# Altium integrated library Xilinx Spartan-3.IntLib: 174 symbols (part 37 of 43)
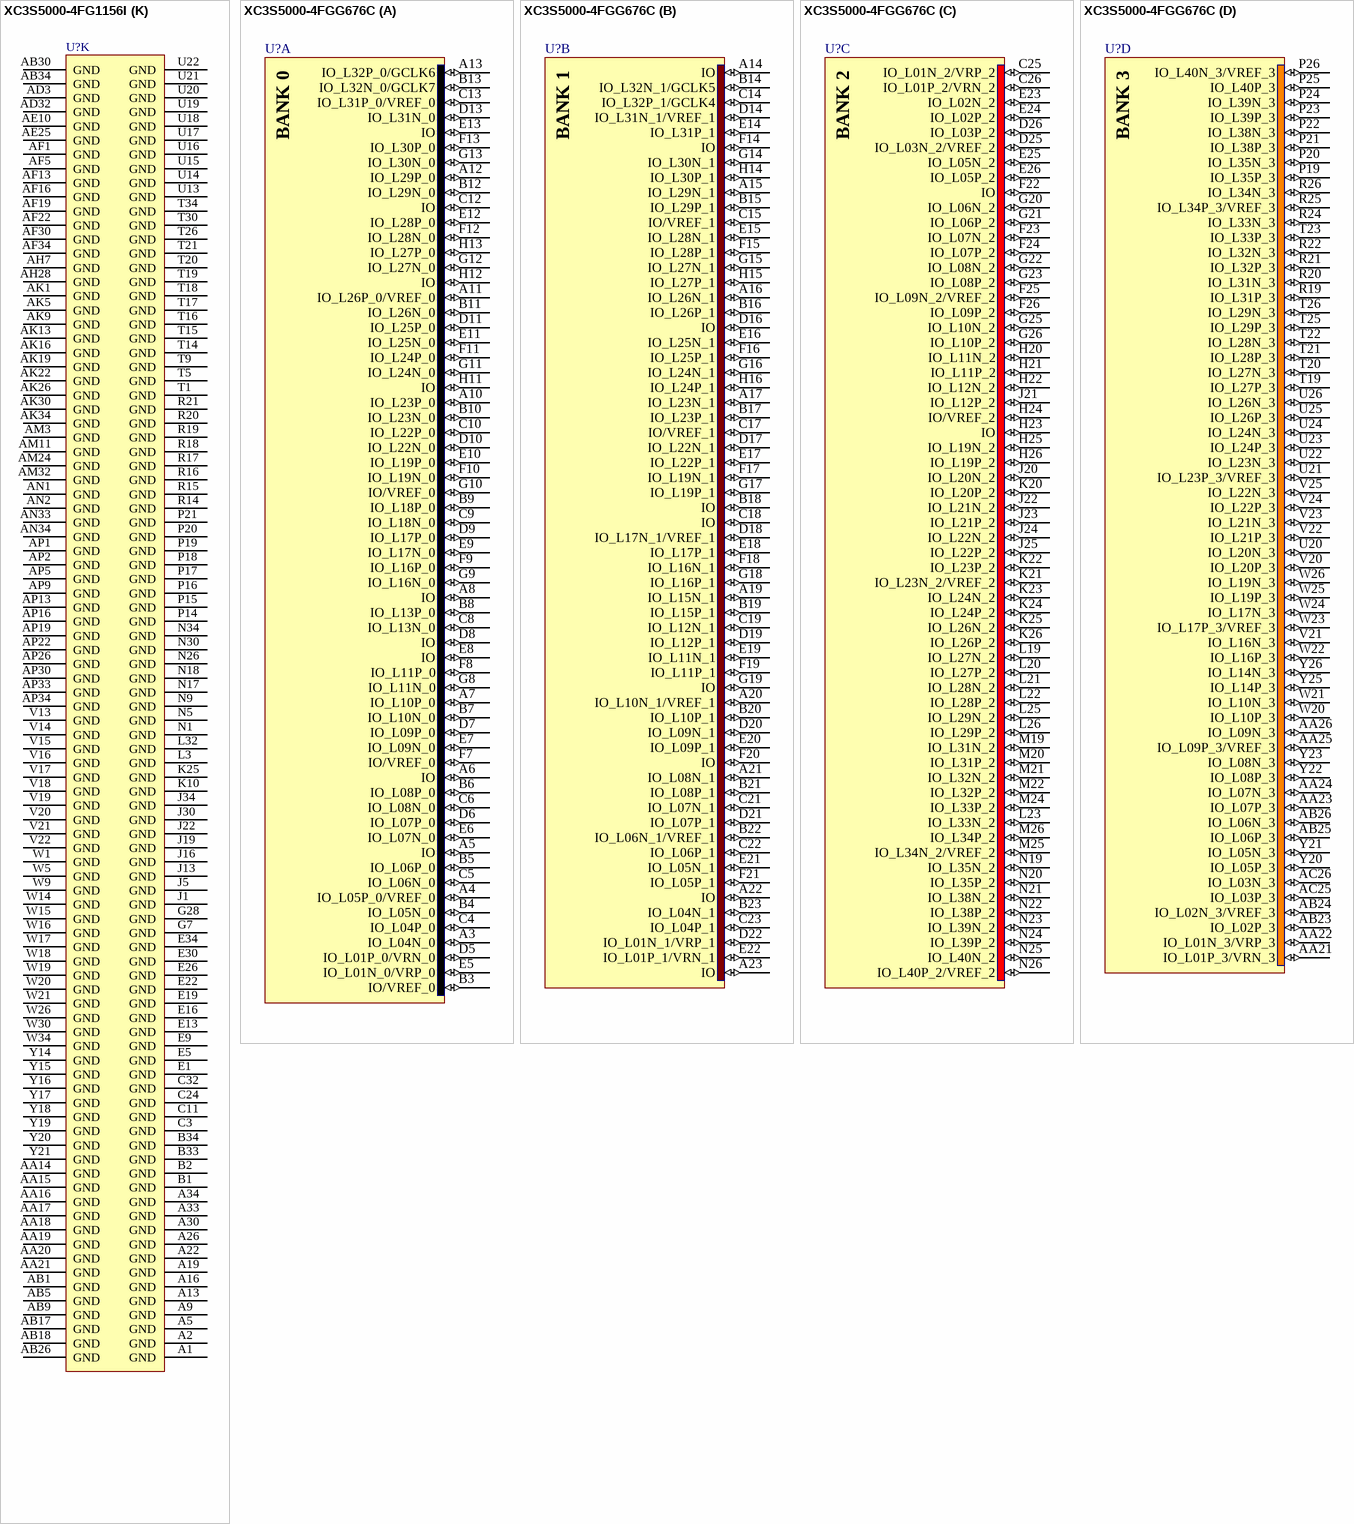
[diagram p228: symbols XC3S5000-4FG1156I to XC3S5000-4FGG676C]

## XC3S5000-4FG1156I
designator U?
Spartan-3 1.2V FPGA, 784 User I/Os, 1156-Ball FBGA, Standard Performance, Industrial Grade; ComponentAvailability: Discontinued.; OrderingInformation: Additional code may have to be appended for different mask revision devices.; Published: 17-Sep-2003; LatestRevisionDate: 01-Mar-2010; LatestRevisionNote: Updated to datasheet version 2.5 Dec-2009.; DatasheetVersion: ver2.5, Dec-2009; PackageVersion: ver1.2.1, Mar-2005; PackageReference: FG1156; Publisher: Altium Limited; PackageDescription: 1156-Ball Fine Pitch Plastic Ball Grid Array (FG1156); Code_JEDEC: MS-034-AAR; Code_IPC: BGA100P34X34-1156; ComponentLink1Description: Spartan-3 Datasheet; ComponentLink1URL: http://www.xilinx.com/support/documentation/data_sheets/ds099.pdf; ComponentLink2Description: Discontinuation Notice; ComponentLink2URL: http://www.xilinx.com/support/documentation/customer_notices/xcn07022.pdf; ComponentLink3Description: FG1156 Package Drawing; ComponentLink3URL: http://www.xilinx.com/support/documentation/package_specs/fg1156.pdf; ComponentLink4Description: Spartan-3 Documents; ComponentLink4URL: http://www.xilinx.com/support/documentation/spartan-3.htm; ComponentLink5Description: Xilinx.com Home; ComponentLink5URL: http://www.xilinx.com
footprint FG1156 (BGA, 1156-Leads, Body 35x35mm, Pitch 1mm)
signal-integrity model XC3S5000_FG1156 (Spartan-3)
part A pins: A3 IO_L01P_0/VRN_0 (io), A4 IO_L02P_0 (io), A6 IO_L05P_0/VREF_0 (io), A7 IO_L34P_0 (io), A8 IO_L36P_0 (io), A10 IO_L38P_0 (io), A11 IO_L40P_0 (io), A12 IO_L15P_0 (io), A14 IO_L22P_0 (io), A15 IO_L26P_0/VREF_0 (io), A17 IO_L32P_0/GCLK6 (io), B3 IO_L01N_0/VRP_0 (io), B4 IO_L02N_0 (io), B5 IO_L03P_0 (io), B6 IO_L05N_0 (io), B7 IO_L34N_0 (io), B8 IO_L36N_0 (io), B9 IO (io), B10 IO_L38N_0 (io), B11 IO_L40N_0 (io), B12 IO_L15N_0 (io), B14 IO_L22N_0 (io), B15 IO_L26N_0 (io), B16 IO_L28P_0 (io), B17 IO_L32N_0/GCLK7 (io), C5 IO_L03N_0 (io), C6 IO_L04P_0 (io), C7 IO_L33P_0 (io), C9 IO_L08P_0 (io), C10 IO_L37P_0 (io), C12 IO_L14P_0 (io), C13 IO_L17P_0 (io), C14 IO_L21P_0 (io), C15 IO_L25P_0 (io), C16 IO_L28N_0 (io), C17 IO_L31P_0/VREF_0 (io), D5 IO/VREF_0 (io), D6 IO_L04N_0 (io), D7 IO_L33N_0 (io), D8 IO_L35P_0 (io), D9 IO_L08N_0 (io), D10 IO_L37N_0 (io), D12 IO_L14N_0 (io), D13 IO_L17N_0 (io), D14 IO_L21N_0 (io), D15 IO_L25N_0 (io), D17 IO_L31N_0 (io), E7 IO_L06P_0 (io), E8 IO_L35N_0 (io), E10 IO/VREF_0 (io), E12 IO_L13P_0 (io), E14 IO_L20P_0 (io), E17 IO (io), F6 IO (io), F7 IO_L06N_0 (io), F8 IO (io), F9 IO_L07P_0 (io), F10 IO_L10P_0 (io), F11 IO_L39P_0 (io), F12 IO_L13N_0 (io), F14 IO_L20N_0 (io), F15 IO_L24P_0 (io), F16 IO_L27P_0 (io), F17 IO_L30P_0 (io), G9 IO_L07N_0 (io), G10 IO_L10N_0 (io), G11 IO_L39N_0 (io), G12 IO (io), G13 IO_L16P_0 (io), G14 IO_L19P_0 (io), G15 IO_L24N_0 (io), G16 IO_L27N_0 (io), G17 IO_L30N_0 (io), H8 IO (io), H9 IO (io), H10 IO_L09P_0 (io), H12 IO_L12P_0 (io), H13 IO_L16N_0 (io), H14 IO_L19N_0 (io), H17 IO_L29P_0 (io), J9 IO (io), J10 IO_L09N_0 (io), J11 IO (io), J12 IO_L12N_0 (io), J14 IO/VREF_0 (io), J15 IO_L23P_0 (io), J17 IO_L29N_0 (io), K11 IO (io), K12 IO_L11P_0 (io), K13 IO (io), K14 IO_L18P_0 (io), K15 IO_L23N_0 (io), K16 IO (io), K17 IO (io), L12 IO_L11N_0 (io), L13 IO (io), L14 IO_L18N_0 (io), L15 IO/VREF_0 (io), L16 IO (io), L17 IO (io)
part B pins: A18 IO (io), A20 IO_L40N_1 (io), A21 IO_L26N_1 (io), A23 IO_L19N_1 (io), A24 IO_L15N_1 (io), A25 IO_L14N_1 (io), A27 IO_L08N_1 (io), A28 IO_L34N_1 (io), A29 IO_L05N_1 (io), A31 IO_L02N_1 (io), A32 IO_L01N_1/VRP_1 (io), B18 IO_L32N_1/GCLK5 (io), B19 IO_L28N_1 (io), B20 IO_L40P_1 (io), B21 IO_L26P_1 (io), B23 IO_L19P_1 (io), B24 IO_L15P_1 (io), B25 IO_L14P_1 (io), B26 IO (io), B27 IO_L08P_1 (io), B28 IO_L34P_1 (io), B29 IO_L05P_1 (io), B30 IO_L03N_1 (io), B31 IO_L02P_1 (io), B32 IO_L01P_1/VRN_1 (io), C18 IO_L32P_1/GCLK4 (io), C19 IO_L28P_1 (io), C20 IO_L39N_1 (io), C21 IO_L25N_1 (io), C22 IO_L22N_1 (io), C23 IO (io), C25 IO_L13N_1 (io), C26 IO_L10N_1/VREF_1 (io), C28 IO_L33N_1 (io), C29 IO_L04N_1 (io), C30 IO_L03P_1 (io), D18 IO_L31N_1/VREF_1 (io), D20 IO_L39P_1 (io), D21 IO_L25P_1 (io), D22 IO_L22P_1 (io), D23 IO_L18N_1 (io), D25 IO_L13P_1 (io), D26 IO_L10P_1 (io), D27 IO_L07N_1 (io), D28 IO_L33P_1 (io), D29 IO_L04P_1 (io), D30 IO/VREF_1 (io), E18 IO_L31P_1 (io), E21 IO (io), E23 IO_L18P_1 (io), E25 IO (io), E27 IO_L07P_1 (io), E28 IO_L06N_1/VREF_1 (io), F18 IO (io), F19 IO_L27N_1 (io), F20 IO_L38N_1 (io), F21 IO_L24N_1 (io), F23 IO_L17N_1/VREF_1 (io), F24 IO_L36N_1 (io), F25 IO_L12N_1 (io), F26 IO_L09N_1 (io), F27 IO (io), F28 IO_L06P_1 (io), F29 IO (io), G18 IO_L30N_1 (io), G19 IO_L27P_1 (io), G20 IO_L38P_1 (io), G21 IO_L24P_1 (io), G22 IO_L21N_1 (io), G23 IO_L17P_1 (io), G24 IO_L36P_1 (io), G25 IO_L12P_1 (io), G26 IO_L09P_1 (io), H18 IO_L30P_1 (io), H21 IO_L23N_1 (io), H22 IO_L21P_1 (io), H23 IO (io), H25 IO_L11N_1 (io), H26 IO (io), J18 IO_L29N_1 (io), J20 IO_L37N_1 (io), J21 IO_L23P_1 (io), J23 IO_L16N_1 (io), J24 IO_L35N_1 (io), J25 IO_L11P_1 (io), J26 IO (io), K18 IO_L29P_1 (io), K19 IO (io), K20 IO_L37P_1 (io), K21 IO/VREF_1 (io), K22 IO_L20N_1 (io), K23 IO_L16P_1 (io), K24 IO_L35P_1 (io), L18 IO/VREF_1 (io), L19 IO (io), L20 IO (io), L21 IO (io), L22 IO_L20P_1 (io), L23 IO (io), L24 IO (io)
part C pins: C33 IO_L01N_2/VRP_2 (io), C34 IO_L01P_2/VRN_2 (io), D33 IO_L02N_2 (io), D34 IO_L02P_2 (io), E32 IO_L03N_2/VREF_2 (io), E33 IO_L03P_2 (io), F31 IO_L04N_2 (io), F32 IO_L04P_2 (io), F33 IO_L41N_2 (io), F34 IO_L41P_2 (io), G29 IO_L05N_2 (io), G30 IO_L05P_2 (io), G31 IO_L42N_2 (io), G32 IO_L42P_2 (io), G33 IO (io), G34 IO (io), H29 IO_L06N_2 (io), H30 IO_L06P_2 (io), H31 IO_L09N_2/VREF_2 (io), H33 IO_L07N_2 (io), H34 IO_L07P_2 (io), J27 IO_L11N_2 (io), J28 IO_L08N_2 (io), J29 IO_L08P_2 (io), J31 IO_L09P_2 (io), J32 IO_L10N_2 (io), J33 IO_L10P_2 (io), K26 IO_L11P_2 (io), K27 IO_L12N_2 (io), K28 IO_L12P_2 (io), K29 IO_L13N_2 (io), K30 IO_L13P_2/VREF_2 (io), K31 IO_L14N_2 (io), K32 IO_L14P_2 (io), K33 IO_L15N_2 (io), K34 IO_L15P_2 (io), L25 IO_L16N_2 (io), L26 IO_L16P_2 (io), L28 IO_L17N_2 (io), L29 IO_L17P_2/VREF_2 (io), L33 IO_L45N_2 (io), L34 IO_L45P_2 (io), M24 IO_L46N_2 (io), M25 IO_L46P_2 (io), M26 IO_L21N_2 (io), M27 IO_L47N_2 (io), M28 IO_L47P_2 (io), M29 IO_L19N_2 (io), M30 IO_L19P_2 (io), M31 IO_L20N_2 (io), M32 IO_L20P_2 (io), M33 IO_L48N_2 (io), M34 IO_L48P_2 (io), N24 IO_L24N_2 (io), N25 IO_L21P_2 (io), N27 IO_L22N_2 (io), N28 IO_L22P_2 (io), N31 IO_L23N_2/VREF_2 (io), N32 IO_L23P_2 (io), P24 IO_L24P_2 (io), P25 IO_L49N_2 (io), P26 IO_L49P_2 (io), P27 IO_L50N_2 (io), P28 IO_L50P_2 (io), P29 IO_L26N_2 (io), P30 IO_L26P_2 (io), P31 IO_L27N_2 (io), P32 IO_L27P_2 (io), P33 IO_L28N_2 (io), P34 IO_L28P_2 (io), R24 IO_L29N_2 (io), R25 IO_L29P_2 (io), R26 IO_L33N_2 (io), R28 IO_L30N_2 (io), R29 IO_L30P_2 (io), R31 IO_L31N_2 (io), R32 IO_L31P_2 (io), R33 IO_L32N_2 (io), R34 IO_L32P_2 (io), T24 IO_L51N_2 (io), T25 IO_L33P_2 (io), T28 IO_L34N_2/VREF_2 (io), T29 IO_L34P_2 (io), T32 IO_L35N_2 (io), T33 IO_L35P_2 (io), U24 IO_L51P_2 (io), U25 IO (io), U26 IO (io), U27 IO_L37N_2 (io), U28 IO_L37P_2 (io), U29 IO_L38N_2 (io), U30 IO_L38P_2 (io), U31 IO_L39N_2 (io), U32 IO_L39P_2 (io), U33 IO_L40N_2 (io), U34 IO_L40P_2/VREF_2 (io)
part D pins: AA24 IO_L48N_3 (io), AA25 IO_L49P_3 (io), AA26 IO_L49N_3 (io), AA27 IO_L26P_3 (io), AA28 IO_L26N_3 (io), AA29 IO_L27P_3 (io), AA30 IO_L27N_3 (io), AA31 IO_L28P_3 (io), AA32 IO_L28N_3 (io), AA33 IO_L29P_3 (io), AA34 IO_L29N_3 (io), AB24 IO_L48P_3 (io), AB25 IO_L24N_3 (io), AB27 IO_L46P_3 (io), AB28 IO_L46N_3 (io), AB31 IO_L47P_3 (io), AB32 IO_L47N_3 (io), AC24 IO_L20P_3 (io), AC25 IO_L20N_3 (io), AC26 IO_L24P_3 (io), AC27 IO_L21P_3 (io), AC28 IO_L21N_3 (io), AC29 IO_L22P_3 (io), AC30 IO_L22N_3 (io), AC31 IO_L23P_3/VREF_3 (io), AC32 IO_L23N_3 (io), AC33 IO_L45P_3 (io), AC34 IO_L45N_3 (io), AD25 IO_L17P_3/VREF_3 (io), AD26 IO_L17N_3 (io), AD28 IO_L44P_3 (io), AD29 IO_L44N_3 (io), AD33 IO_L19P_3 (io), AD34 IO_L19N_3 (io), AE26 IO_L12N_3 (io), AE27 IO_L13P_3 (io), AE28 IO_L13N_3/VREF_3 (io), AE29 IO_L14P_3 (io), AE30 IO_L14N_3 (io), AE31 IO_L15P_3 (io), AE32 IO_L15N_3 (io), AE33 IO_L16P_3 (io), AE34 IO_L16N_3 (io), AF27 IO_L12P_3 (io), AF28 IO_L09P_3/VREF_3 (io), AF29 IO_L09N_3 (io), AF31 IO_L10N_3 (io), AF32 IO_L11P_3 (io), AF33 IO_L11N_3 (io), AG29 IO_L07P_3 (io), AG30 IO_L07N_3 (io), AG31 IO_L10P_3 (io), AG33 IO_L08P_3 (io), AG34 IO_L08N_3 (io), AH29 IO_L06P_3 (io), AH30 IO_L06N_3 (io), AH31 IO_L41P_3 (io), AH32 IO_L41N_3 (io), AH33 IO (io), AH34 IO (io), AJ31 IO_L04P_3 (io), AJ32 IO_L04N_3 (io), AJ33 IO_L05P_3 (io), AJ34 IO_L05N_3 (io), AK32 IO_L03P_3 (io), AK33 IO_L03N_3 (io), AL33 IO_L02P_3 (io), AL34 IO_L02N_3/VREF_3 (io), AM33 IO_L01P_3/VRN_3 (io), AM34 IO_L01N_3/VRP_3 (io), V24 IO_L51N_3 (io), V25 IO (io), V26 IO (io), V27 IO_L37P_3 (io), V28 IO_L37N_3 (io), V29 IO_L38P_3 (io), V30 IO_L38N_3 (io), V31 IO_L39P_3 (io), V32 IO_L39N_3 (io), V33 IO_L40P_3 (io), V34 IO_L40N_3/VREF_3 (io), W24 IO_L51P_3 (io), W25 IO_L33N_3 (io), W28 IO_L34P_3/VREF_3 (io), W29 IO_L34N_3 (io), W32 IO_L35P_3 (io), W33 IO_L35N_3 (io), Y24 IO_L50P_3 (io), Y25 IO_L50N_3 (io), Y26 IO_L33P_3 (io), Y28 IO_L30P_3 (io), Y29 IO_L30N_3 (io), Y31 IO_L31P_3 (io), Y32 IO_L31N_3 (io), Y33 IO_L32P_3 (io), Y34 IO_L32N_3 (io)
part E pins: AD18 IO (io), AD19 IO (io), AD20 IO (io), AD21 IO_L18N_4 (io), AD22 IO (io), AD23 IO_L11N_4 (io), AE18 IO (io), AE19 IO (io), AE20 IO_L23N_4 (io), AE21 IO_L18P_4 (io), AE22 IO (io), AE23 IO_L11P_4 (io), AE24 IO (io), AF18 IO_L29N_4 (io), AF20 IO_L23P_4 (io), AF21 IO/VREF_4 (io), AF23 IO_L12N_4 (io), AF24 IO (io), AF25 IO_L07N_4 (io), AF26 IO (io), AG18 IO_L29P_4 (io), AG21 IO_L19N_4 (io), AG22 IO_L16N_4 (io), AG23 IO_L12P_4 (io), AG25 IO_L07P_4 (io), AG26 IO (io), AG27 IO (io), AH18 IO_L30N_4/D2 (io), AH19 IO_L27N_4/DIN/D0 (io), AH20 IO_L24N_4 (io), AH21 IO_L19P_4 (io), AH22 IO_L16P_4 (io), AH23 IO/VREF_4 (io), AH24 IO_L39N_4 (io), AH25 IO_L08N_4 (io), AH26 IO_L05N_4 (io), AJ18 IO_L30P_4/D3 (io), AJ19 IO_L27P_4/D1 (io), AJ20 IO_L24P_4 (io), AJ21 IO_L20N_4 (io), AJ23 IO_L13N_4 (io), AJ24 IO_L39P_4 (io), AJ25 IO_L08P_4 (io), AJ26 IO_L05P_4 (io), AJ27 IO (io), AJ28 IO_L35N_4 (io), AJ29 IO (io), AK18 IO/VREF_4 (io), AK21 IO_L20P_4 (io), AK23 IO_L13P_4 (io), AK25 IO (io), AK27 IO_L38N_4 (io), AK28 IO_L35P_4 (io), AL18 IO_L31N_4/INIT_B (io), AL20 IO_L25N_4 (io), AL21 IO_L21N_4 (io), AL22 IO_L17N_4 (io), AL23 IO_L14N_4 (io), AL25 IO_L09N_4 (io), AL26 IO_L06N_4/VREF_4 (io), AL27 IO_L38P_4 (io), AL28 IO_L36N_4 (io), AL29 IO_L33N_4 (io), AL30 IO/VREF_4 (io), AM18 IO_L31P_4/DOUT/BUSY (io), AM19 IO_L28N_4 (io), AM20 IO_L25P_4 (io), AM21 IO_L21P_4 (io), AM22 IO_L17P_4 (io), AM23 IO_L14P_4 (io), AM25 IO_L09P_4 (io), AM26 IO_L06P_4 (io), AM28 IO_L36P_4 (io), AM29 IO_L33P_4 (io), AM30 IO_L03N_4 (io), AN18 IO_L32N_4/GCLK1 (io), AN19 IO_L28P_4 (io), AN20 IO_L26N_4 (io), AN21 IO_L22N_4/VREF_4 (io), AN23 IO_L15N_4 (io), AN24 IO_L40N_4 (io), AN25 IO_L10N_4 (io), AN26 IO (io), AN27 IO_L04N_4 (io), AN28 IO_L37N_4 (io), AN29 IO_L34N_4 (io), AN30 IO_L03P_4 (io), AN31 IO_L02N_4 (io), AN32 IO_L01N_4/VRP_4 (io), AP18 IO_L32P_4/GCLK0 (io), AP20 IO_L26P_4/VREF_4 (io), AP21 IO_L22P_4 (io), AP23 IO_L15P_4 (io), AP24 IO_L40P_4 (io), AP25 IO_L10P_4 (io), AP27 IO_L04P_4 (io), AP28 IO_L37P_4 (io), AP29 IO_L34P_4 (io), AP31 IO_L02P_4 (io), AP32 IO_L01P_4/VRN_4 (io)
part F pins: AD11 IO (io), AD12 IO (io), AD13 IO_L16P_5 (io), AD14 IO (io), AD15 IO (io), AD16 IO (io), AD17 IO (io), AE11 IO_L39P_5 (io), AE12 IO_L12P_5 (io), AE13 IO_L16N_5 (io), AE14 IO (io), AE15 IO_L23P_5 (io), AE16 IO (io), AE17 IO_L29P_5/VREF_5 (io), AF9 IO (io), AF10 IO_L07P_5 (io), AF11 IO_L39N_5 (io), AF12 IO_L12N_5 (io), AF14 IO_L19P_5/VREF_5 (io), AF15 IO_L23N_5 (io), AF17 IO_L29N_5 (io), AG9 IO (io), AG10 IO_L07N_5 (io), AG12 IO (io), AG13 IO_L17P_5 (io), AG14 IO_L19N_5 (io), AG17 IO_L30P_5 (io), AH9 IO_L37P_5 (io), AH10 IO_L08P_5 (io), AH11 IO_L40P_5 (io), AH12 IO_L13P_5 (io), AH13 IO_L17N_5 (io), AH14 IO_L20P_5 (io), AH15 IO_L24P_5 (io), AH16 IO_L27P_5 (io), AH17 IO_L30N_5 (io), AJ6 IO (io), AJ7 IO_L06P_5 (io), AJ8 IO/VREF_5 (io), AJ9 IO_L37N_5 (io), AJ10 IO_L08N_5 (io), AJ11 IO_L40N_5 (io), AJ12 IO_L13N_5 (io), AJ14 IO_L20N_5 (io), AJ15 IO_L24N_5 (io), AJ16 IO_L27N_5/VREF_5 (io), AJ17 IO (io), AK7 IO_L06N_5 (io), AK8 IO_L35P_5 (io), AK10 IO (io), AK12 IO_L14P_5 (io), AK14 IO (io), AK17 IO_L31P_5/D5 (io), AL5 IO/VREF_5 (io), AL6 IO_L04P_5 (io), AL7 IO_L33P_5 (io), AL8 IO_L35N_5 (io), AL9 IO_L38P_5 (io), AL10 IO_L09P_5 (io), AL12 IO_L14N_5 (io), AL13 IO_L18P_5 (io), AL14 IO_L21P_5 (io), AL15 IO_L25P_5 (io), AL17 IO_L31N_5/D4 (io), AM5 IO_L03P_5 (io), AM6 IO_L04N_5 (io), AM7 IO_L33N_5 (io), AM9 IO_L38N_5 (io), AM10 IO_L09N_5 (io), AM12 IO (io), AM13 IO_L18N_5 (io), AM14 IO_L21N_5 (io), AM15 IO_L25N_5 (io), AM16 IO_L28P_5/D7 (io), AM17 IO_L32P_5/GCLK2 (io), AN3 IO_L01P_5/CS_B (io), AN4 IO_L02P_5 (io), AN5 IO_L03N_5 (io), AN6 IO_L05P_5 (io), AN7 IO_L34P_5 (io), AN8 IO_L36P_5 (io), AN9 IO (io), AN10 IO_L10P_5/VRN_5 (io), AN11 IO_L11P_5 (io), AN12 IO_L15P_5 (io), AN14 IO_L22P_5 (io), AN15 IO_L26P_5 (io), AN16 IO_L28N_5/D6 (io), AN17 IO_L32N_5/GCLK3 (io), AP3 IO_L01N_5/RDWR_B (io), AP4 IO_L02N_5 (io), AP6 IO_L05N_5 (io), AP7 IO_L34N_5 (io), AP8 IO_L36N_5 (io), AP10 IO_L10N_5/VRP_5 (io), AP11 IO_L11N_5/VREF_5 (io), AP12 IO_L15N_5 (io), AP14 IO_L22N_5 (io), AP15 IO_L26N_5 (io), AP17 IO/VREF_5 (io)
part G pins: AA1 IO_L31P_6 (io), AA2 IO_L31N_6 (io), AA3 IO_L30P_6 (io), AA4 IO_L30N_6 (io), AA5 IO_L29P_6 (io), AA6 IO_L29N_6 (io), AA7 IO_L28P_6 (io), AA8 IO_L28N_6 (io), AA9 IO_L46P_6 (io), AA10 IO_L46N_6 (io), AA11 IO_L27P_6 (io), AB3 IO_L26P_6 (io), AB4 IO_L26N_6 (io), AB7 IO_L25P_6 (io), AB8 IO_L25N_6 (io), AB10 IO_L24P_6 (io), AB11 IO_L27N_6 (io), AC1 IO_L23P_6 (io), AC2 IO_L23N_6 (io), AC3 IO_L45P_6 (io), AC4 IO_L45N_6 (io), AC5 IO_L22P_6 (io), AC6 IO_L22N_6 (io), AC7 IO_L21P_6 (io), AC8 IO_L21N_6 (io), AC9 IO_L24N_6/VREF_6 (io), AC10 IO_L20P_6 (io), AC11 IO_L20N_6 (io), AD1 IO_L19P_6 (io), AD2 IO_L19N_6 (io), AD6 IO_L44P_6 (io), AD7 IO_L44N_6 (io), AD9 IO_L17P_6/VREF_6 (io), AD10 IO_L17N_6 (io), AE1 IO_L16P_6 (io), AE2 IO_L16N_6 (io), AE3 IO_L15P_6 (io), AE4 IO_L15N_6 (io), AE5 IO_L14P_6 (io), AE6 IO_L14N_6 (io), AE7 IO_L13P_6/VREF_6 (io), AE8 IO_L13N_6 (io), AE9 IO_L12P_6 (io), AF2 IO_L11P_6 (io), AF3 IO_L11N_6 (io), AF4 IO_L10P_6 (io), AF6 IO_L09P_6 (io), AF7 IO_L09N_6/VREF_6 (io), AF8 IO_L12N_6 (io), AG1 IO_L08P_6 (io), AG2 IO_L08N_6 (io), AG4 IO_L10N_6 (io), AG5 IO_L07P_6 (io), AG6 IO_L07N_6 (io), AH1 IO (io), AH2 IO (io), AH3 IO_L41P_6 (io), AH4 IO_L41N_6 (io), AH5 IO_L06P_6 (io), AH6 IO_L06N_6 (io), AJ1 IO_L05P_6 (io), AJ2 IO_L05N_6 (io), AJ3 IO_L04P_6 (io), AJ4 IO_L04N_6 (io), AK2 IO_L03P_6 (io), AK3 IO_L03N_6/VREF_6 (io), AL1 IO_L02P_6 (io), AL2 IO_L02N_6 (io), AM1 IO_L01P_6/VRN_6 (io), AM2 IO_L01N_6/VRP_6 (io), V1 IO_L40P_6/VREF_6 (io), V2 IO_L40N_6 (io), V3 IO_L39P_6 (io), V4 IO_L39N_6 (io), V5 IO_L38P_6 (io), V6 IO_L38N_6 (io), V7 IO_L52P_6 (io), V8 IO_L52N_6 (io), V9 IO (io), V10 IO (io), V11 IO_L49P_6 (io), W2 IO_L37P_6 (io), W3 IO_L37N_6 (io), W6 IO_L36P_6 (io), W7 IO_L36N_6 (io), W10 IO_L35P_6 (io), W11 IO_L49N_6 (io), Y1 IO_L34P_6 (io), Y2 IO_L34N_6/VREF_6 (io), Y3 IO_L33P_6 (io), Y4 IO_L33N_6 (io), Y6 IO_L48P_6 (io), Y7 IO_L48N_6 (io), Y9 IO_L35N_6 (io), Y10 IO_L32P_6 (io), Y11 IO_L32N_6 (io)
part H pins: C1 IO_L01N_7/VRP_7 (io), C2 IO_L01P_7/VRN_7 (io), D1 IO_L02N_7 (io), D2 IO_L02P_7 (io), E2 IO_L03N_7/VREF_7 (io), E3 IO_L03P_7 (io), F1 IO_L05N_7 (io), F2 IO_L05P_7 (io), F3 IO_L04N_7 (io), F4 IO_L04P_7 (io), G1 IO (io), G2 IO (io), G3 IO_L41N_7 (io), G4 IO_L41P_7 (io), G5 IO_L06N_7 (io), G6 IO_L06P_7 (io), H1 IO_L08N_7 (io), H2 IO_L08P_7 (io), H4 IO_L10P_7/VREF_7 (io), H5 IO_L07N_7 (io), H6 IO_L07P_7 (io), J2 IO_L11N_7 (io), J3 IO_L11P_7 (io), J4 IO_L10N_7 (io), J6 IO_L09N_7 (io), J7 IO_L09P_7 (io), J8 IO_L12P_7 (io), K1 IO_L16N_7 (io), K2 IO_L16P_7/VREF_7 (io), K3 IO_L15N_7 (io), K4 IO_L15P_7 (io), K5 IO_L14N_7 (io), K6 IO_L14P_7 (io), K7 IO_L13N_7 (io), K8 IO_L13P_7 (io), K9 IO_L12N_7 (io), L1 IO_L19N_7/VREF_7 (io), L2 IO_L19P_7 (io), L6 IO_L44N_7 (io), L7 IO_L44P_7 (io), L9 IO_L17N_7 (io), L10 IO_L17P_7 (io), M1 IO_L45N_7 (io), M2 IO_L45P_7 (io), M3 IO_L23N_7 (io), M4 IO_L23P_7 (io), M5 IO_L22N_7 (io), M6 IO_L22P_7 (io), M7 IO_L21N_7 (io), M8 IO_L21P_7 (io), M9 IO_L24P_7 (io), M10 IO_L20N_7 (io), M11 IO_L20P_7 (io), N3 IO_L25N_7 (io), N4 IO_L25P_7 (io), N7 IO_L46N_7 (io), N8 IO_L46P_7 (io), N10 IO_L24N_7 (io), N11 IO_L26P_7 (io), P1 IO_L49N_7 (io), P2 IO_L49P_7 (io), P3 IO_L29N_7 (io), P4 IO_L29P_7 (io), P5 IO_L28N_7 (io), P6 IO_L28P_7 (io), P7 IO_L27N_7 (io), P8 IO_L27P_7/VREF_7 (io), P9 IO_L47N_7 (io), P10 IO_L47P_7 (io), P11 IO_L26N_7 (io), R1 IO_L32N_7 (io), R2 IO_L32P_7 (io), R3 IO_L31N_7 (io), R4 IO_L31P_7 (io), R6 IO_L30N_7 (io), R7 IO_L30P_7 (io), R9 IO_L33P_7 (io), R10 IO_L50N_7 (io), R11 IO_L50P_7 (io), T2 IO_L35N_7 (io), T3 IO_L35P_7 (io), T6 IO_L34N_7 (io), T7 IO_L34P_7 (io), T10 IO_L33N_7 (io), T11 IO_L51P_7 (io), U1 IO_L40N_7/VREF_7 (io), U2 IO_L40P_7 (io), U3 IO_L39N_7 (io), U4 IO_L39P_7 (io), U5 IO_L38N_7 (io), U6 IO_L38P_7 (io), U7 IO_L37N_7 (io), U8 IO_L37P_7/VREF_7 (io), U9 IO (io), U10 IO (io), U11 IO_L51N_7 (io)
part I pins: AD24 DONE (io), AG8 M2 (in), AK4 M1 (in), AK31 N.C. ( ), AL4 M0 (in), AL31 CCLK (io), D4 PROG_B (in), D31 TCK (in), E4 TDI (in), E31 TDO (out), H27 TMS (in), L11 HSWAP_EN (in)
part J pins: AA12 VCCO_6 (power), AA13 VCCINT (power), AA22 VCCINT (power), AA23 VCCO_3 (power), AB2 VCCO_6 (power), AB6 VCCO_6 (power), AB12 VCCO_6 (power), AB13 VCCINT (power), AB14 VCCINT (power), AB15 VCCINT (power), AB16 VCCINT (power), AB19 VCCINT (power), AB20 VCCINT (power), AB21 VCCINT (power), AB22 VCCINT (power), AB23 VCCO_3 (power), AB29 VCCO_3 (power), AB33 VCCO_3 (power), AC12 VCCINT (power), AC13 VCCO_5 (power), AC14 VCCO_5 (power), AC15 VCCO_5 (power), AC16 VCCO_5 (power), AC17 VCCINT (power), AC18 VCCINT (power), AC19 VCCO_4 (power), AC20 VCCO_4 (power), AC21 VCCO_4 (power), AC22 VCCO_4 (power), AC23 VCCINT (power), AD4 VCCO_6 (power), AD5 VCCAUX (power), AD8 VCCO_6 (power), AD27 VCCO_3 (power), AD30 VCCAUX (power), AD31 VCCO_3 (power), AG3 VCCO_6 (power), AG7 VCCO_6 (power), AG11 VCCO_5 (power), AG15 VCCO_5 (power), AG16 VCCAUX (power), AG19 VCCAUX (power), AG20 VCCO_4 (power), AG24 VCCO_4 (power), AG28 VCCO_3 (power), AG32 VCCO_3 (power), AH8 VCCO_5 (power), AH27 VCCO_4 (power), AJ5 VCCAUX (power), AJ13 VCCO_5 (power), AJ22 VCCO_4 (power), AJ30 VCCAUX (power), AK6 VCCAUX (power), AK11 VCCAUX (power), AK15 VCCAUX (power), AK20 VCCAUX (power), AK24 VCCAUX (power), AK29 VCCAUX (power), AL3 VCCO_6 (power), AL11 VCCO_5 (power), AL16 VCCO_5 (power), AL19 VCCO_4 (power), AL24 VCCO_4 (power), AL32 VCCO_3 (power), AM4 VCCO_5 (power), AM8 VCCO_5 (power), AM27 VCCO_4 (power), AM31 VCCO_4 (power), AN13 VCCO_5 (power), AN22 VCCO_4 (power), B13 VCCO_0 (power), B22 VCCO_1 (power), C4 VCCO_0 (power), C8 VCCO_0 (power), C27 VCCO_1 (power), C31 VCCO_1 (power), D3 VCCO_7 (power), D11 VCCO_0 (power), D16 VCCO_0 (power), D19 VCCO_1 (power), D24 VCCO_1 (power), D32 VCCO_2 (power), E6 VCCAUX (power), E11 VCCAUX (power), E15 VCCAUX (power), E20 VCCAUX (power), E24 VCCAUX (power), E29 VCCAUX (power), F5 VCCAUX (power), F13 VCCO_0 (power), F22 VCCO_1 (power), F30 VCCAUX (power), G8 VCCO_0 (power), G27 VCCO_1 (power), H3 VCCO_7 (power), H7 VCCO_7 (power), H11 VCCO_0 (power), H15 VCCO_0 (power), H16 VCCAUX (power), H19 VCCAUX (power), H20 VCCO_1 (power), H24 VCCO_1 (power), H28 VCCO_2 (power), H32 VCCO_2 (power), L4 VCCO_7 (power), L5 VCCAUX (power), L8 VCCO_7 (power), L27 VCCO_2 (power), L30 VCCAUX (power), L31 VCCO_2 (power), M12 VCCINT (power), M13 VCCO_0 (power), M14 VCCO_0 (power), M15 VCCO_0 (power), M16 VCCO_0 (power), M17 VCCINT (power), M18 VCCINT (power), M19 VCCO_1 (power), M20 VCCO_1 (power), M21 VCCO_1 (power), M22 VCCO_1 (power), M23 VCCINT (power), N2 VCCO_7 (power), N6 VCCO_7 (power), N12 VCCO_7 (power), N13 VCCINT (power), N14 VCCINT (power), N15 VCCINT (power), N16 VCCINT (power), N19 VCCINT (power), N20 VCCINT (power), N21 VCCINT (power), N22 VCCINT (power), N23 VCCO_2 (power), N29 VCCO_2 (power), N33 VCCO_2 (power), P12 VCCO_7 (power), P13 VCCINT (power), P22 VCCINT (power), P23 VCCO_2 (power), R5 VCCAUX (power), R8 VCCO_7 (power), R12 VCCO_7 (power), R13 VCCINT (power), R22 VCCINT (power), R23 VCCO_2 (power), R27 VCCO_2 (power), R30 VCCAUX (power), T4 VCCO_7 (power), T8 VCCAUX (power), T12 VCCO_7 (power), T13 VCCINT (power), T22 VCCINT (power), T23 VCCO_2 (power), T27 VCCAUX (power), T31 VCCO_2 (power), U12 VCCINT (power), U23 VCCINT (power), V12 VCCINT (power), V23 VCCINT (power), W4 VCCO_6 (power), W8 VCCAUX (power), W12 VCCO_6 (power), W13 VCCINT (power), W22 VCCINT (power), W23 VCCO_3 (power), W27 VCCAUX (power), W31 VCCO_3 (power), Y5 VCCAUX (power), Y8 VCCO_6 (power), Y12 VCCO_6 (power), Y13 VCCINT (power), Y22 VCCINT (power), Y23 VCCO_3 (power), Y27 VCCO_3 (power), Y30 VCCAUX (power)
part K pins: A1 GND (power), A2 GND (power), A5 GND (power), A9 GND (power), A13 GND (power), A16 GND (power), A19 GND (power), A22 GND (power), A26 GND (power), A30 GND (power), A33 GND (power), A34 GND (power), AA14 GND (power), AA15 GND (power), AA16 GND (power), AA17 GND (power), AA18 GND (power), AA19 GND (power), AA20 GND (power), AA21 GND (power), AB1 GND (power), AB5 GND (power), AB9 GND (power), AB17 GND (power), AB18 GND (power), AB26 GND (power), AB30 GND (power), AB34 GND (power), AD3 GND (power), AD32 GND (power), AE10 GND (power), AE25 GND (power), AF1 GND (power), AF5 GND (power), AF13 GND (power), AF16 GND (power), AF19 GND (power), AF22 GND (power), AF30 GND (power), AF34 GND (power), AH7 GND (power), AH28 GND (power), AK1 GND (power), AK5 GND (power), AK9 GND (power), AK13 GND (power), AK16 GND (power), AK19 GND (power), AK22 GND (power), AK26 GND (power), AK30 GND (power), AK34 GND (power), AM3 GND (power), AM11 GND (power), AM24 GND (power), AM32 GND (power), AN1 GND (power), AN2 GND (power), AN33 GND (power), AN34 GND (power), AP1 GND (power), AP2 GND (power), AP5 GND (power), AP9 GND (power), AP13 GND (power), AP16 GND (power), AP19 GND (power), AP22 GND (power), AP26 GND (power), AP30 GND (power), AP33 GND (power), AP34 GND (power), B1 GND (power), B2 GND (power), B33 GND (power), B34 GND (power), C3 GND (power), C11 GND (power), C24 GND (power), C32 GND (power), E1 GND (power), E5 GND (power), E9 GND (power), E13 GND (power), E16 GND (power), E19 GND (power), E22 GND (power), E26 GND (power), E30 GND (power), E34 GND (power), G7 GND (power), G28 GND (power), J1 GND (power), J5 GND (power), J13 GND (power), J16 GND (power), J19 GND (power), J22 GND (power), J30 GND (power), J34 GND (power), K10 GND (power), K25 GND (power), L3 GND (power), L32 GND (power), N1 GND (power), N5 GND (power), N9 GND (power), N17 GND (power), N18 GND (power), N26 GND (power), N30 GND (power), N34 GND (power), P14 GND (power), P15 GND (power), P16 GND (power), P17 GND (power), P18 GND (power), P19 GND (power), P20 GND (power), P21 GND (power), R14 GND (power), R15 GND (power), R16 GND (power), R17 GND (power), R18 GND (power), R19 GND (power), R20 GND (power), R21 GND (power), T1 GND (power), T5 GND (power), T9 GND (power), T14 GND (power), T15 GND (power), T16 GND (power), T17 GND (power), T18 GND (power), T19 GND (power), T20 GND (power), T21 GND (power), T26 GND (power), T30 GND (power), T34 GND (power), U13 GND (power), U14 GND (power), U15 GND (power), U16 GND (power), U17 GND (power), U18 GND (power), U19 GND (power), U20 GND (power), U21 GND (power), U22 GND (power), V13 GND (power), V14 GND (power), V15 GND (power), V16 GND (power), V17 GND (power), V18 GND (power), V19 GND (power), V20 GND (power), V21 GND (power), V22 GND (power), W1 GND (power), W5 GND (power), W9 GND (power), W14 GND (power), W15 GND (power), W16 GND (power), W17 GND (power), W18 GND (power), W19 GND (power), W20 GND (power), W21 GND (power), W26 GND (power), W30 GND (power), W34 GND (power), Y14 GND (power), Y15 GND (power), Y16 GND (power), Y17 GND (power), Y18 GND (power), Y19 GND (power), Y20 GND (power), Y21 GND (power)
part A text: BANK 0
part B text: BANK 1
part C text: BANK 2
part D text: BANK 3
part E text: BANK 4
part F text: BANK 5
part G text: BANK 6
part H text: BANK 7

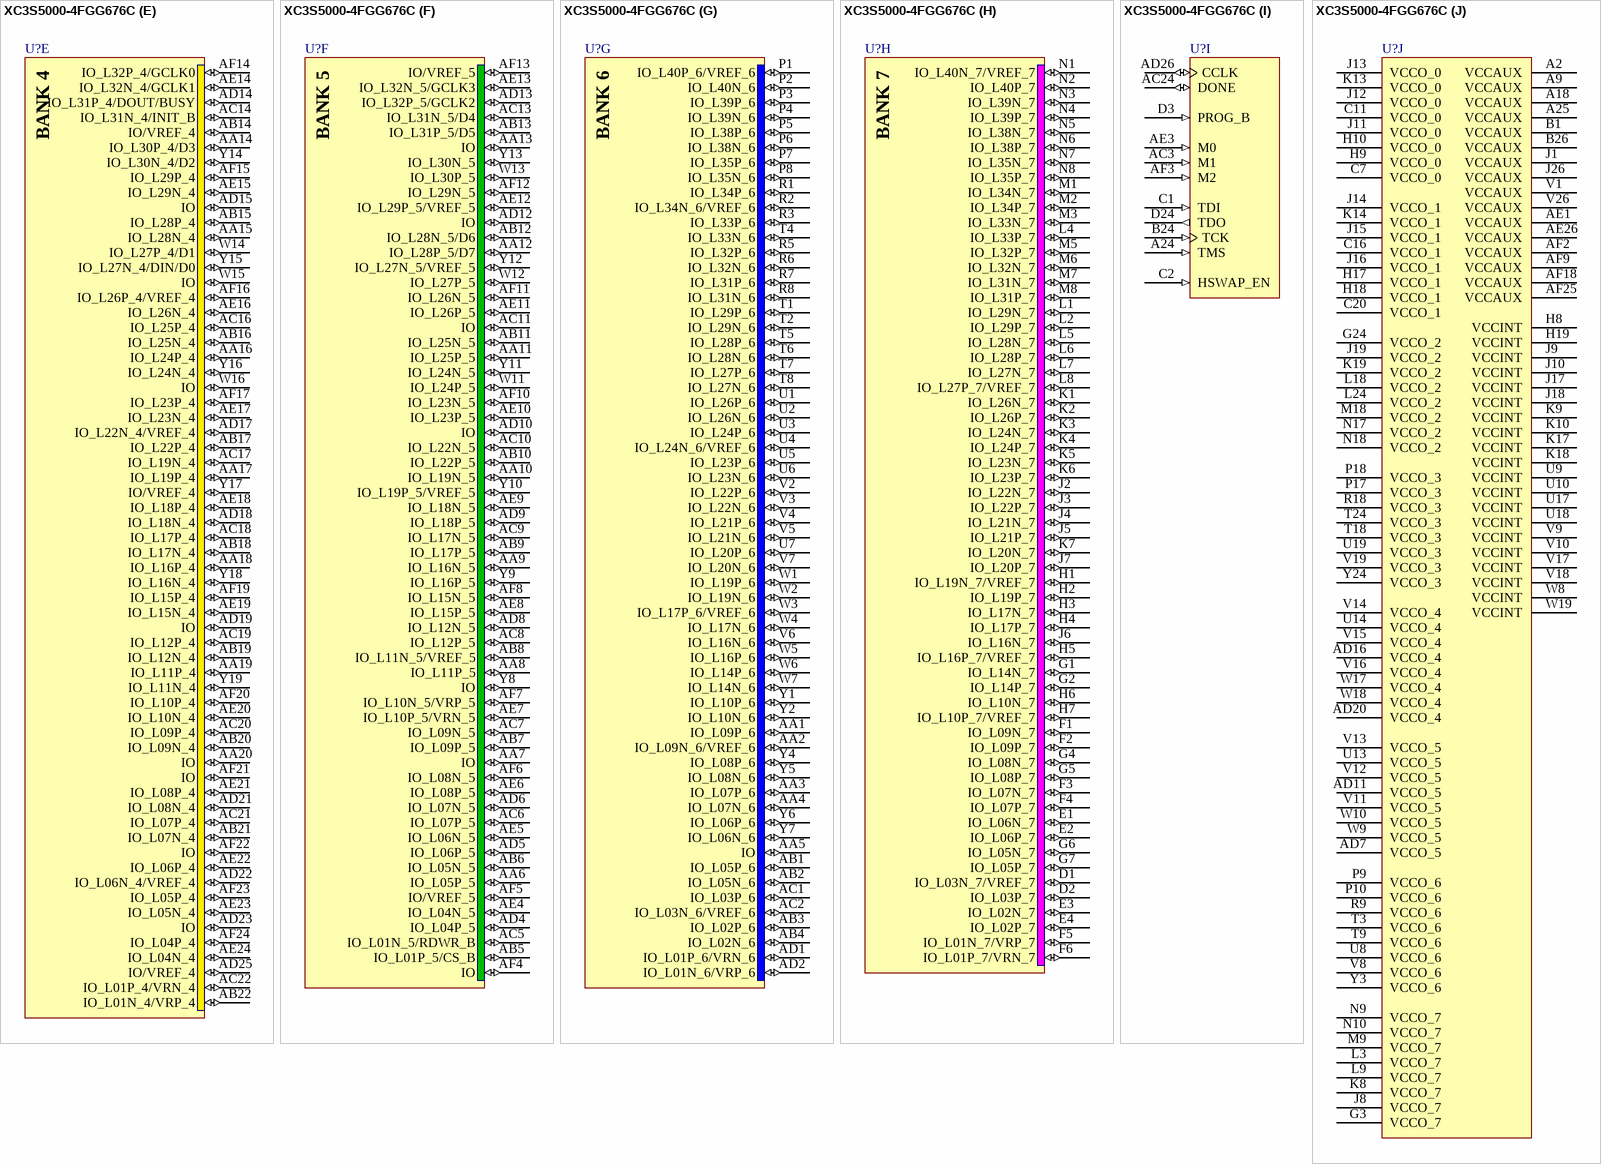
[diagram p171: symbol XC3S5000-4FGG676C]

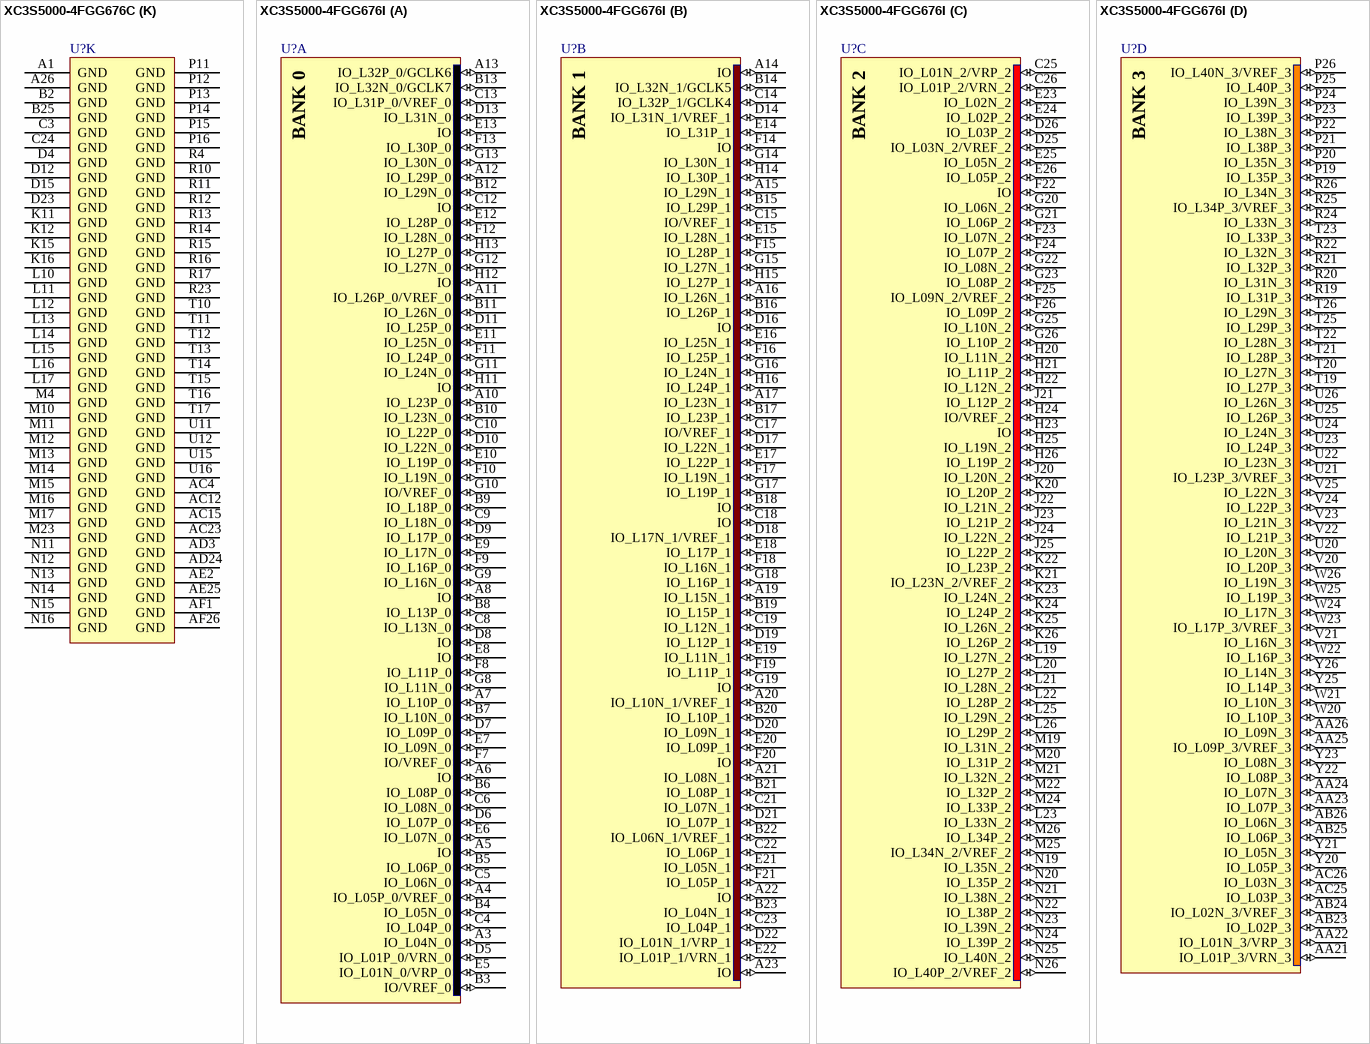
[diagram p172: symbols XC3S5000-4FGG676C to XC3S5000-4FGG676I]

## XC3S5000-4FGG676C
designator U?
Spartan-3 1.2V FPGA, 489 User I/Os, 676-Ball FBGA, Standard Performance, Commercial Grade, Pb-Free; OrderingInformation: Additional code may have to be appended for different mask revision devices.; Published: 30-May-2008; LatestRevisionDate: 01-Mar-2010; LatestRevisionNote: Updated to datasheet version 2.5 Dec-2009.; DatasheetVersion: ver2.5, Dec-2009; PackageVersion: ver1.2.1, Apr-2005; PackageReference: FGG676; Publisher: Altium Limited; PackageDescription: 676-Ball Fine Pitch Ball Grid Array (FGG676) - Pb-Free; Supplier 1: Digi-Key; Supplier Part Number 1: XC3S5000-4FGG676C-ND; Code_JEDEC: MS-034-AAL-1; Code_IPC: BGA100P26X26-676; ComponentLink1Description: Spartan-3 Datasheet; ComponentLink1URL: http://www.xilinx.com/support/documentation/data_sheets/ds099.pdf; ComponentLink2Description: FGG676 Package Drawing; ComponentLink2URL: http://www.xilinx.com/support/documentation/package_specs/fg676.pdf; ComponentLink3Description: Spartan-3 Documents; ComponentLink3URL: http://www.xilinx.com/support/documentation/spartan-3.htm; ComponentLink4Description: Xilinx.com Home; ComponentLink4URL: http://www.xilinx.com
footprint FGG676 (BGA, 676-Leads, Body 27x27mm, Pitch 1mm)
signal-integrity model XC3S5000_FG676 (Spartan-3)
part A pins: A3 IO_L04N_0 (io), A4 IO_L05P_0/VREF_0 (io), A5 IO (io), A6 IO (io), A7 IO_L10P_0 (io), A8 IO (io), A10 IO_L23P_0 (io), A11 IO_L26P_0/VREF_0 (io), A12 IO_L29P_0 (io), A13 IO_L32P_0/GCLK6 (io), B3 IO/VREF_0 (io), B4 IO_L05N_0 (io), B5 IO_L06P_0 (io), B6 IO_L08P_0 (io), B7 IO_L10N_0 (io), B8 IO_L13P_0 (io), B9 IO_L18P_0 (io), B10 IO_L23N_0 (io), B11 IO_L26N_0 (io), B12 IO_L29N_0 (io), B13 IO_L32N_0/GCLK7 (io), C4 IO_L04P_0 (io), C5 IO_L06N_0 (io), C6 IO_L08N_0 (io), C8 IO_L13N_0 (io), C9 IO_L18N_0 (io), C10 IO_L22P_0 (io), C12 IO (io), C13 IO_L31P_0/VREF_0 (io), D5 IO_L01P_0/VRN_0 (io), D6 IO_L07P_0 (io), D7 IO_L09P_0 (io), D8 IO (io), D9 IO_L17P_0 (io), D10 IO_L22N_0 (io), D11 IO_L25P_0 (io), D13 IO_L31N_0 (io), E5 IO_L01N_0/VRP_0 (io), E6 IO_L07N_0 (io), E7 IO_L09N_0 (io), E8 IO (io), E9 IO_L17N_0 (io), E10 IO_L19P_0 (io), E11 IO_L25N_0 (io), E12 IO_L28P_0 (io), E13 IO (io), F7 IO/VREF_0 (io), F8 IO_L11P_0 (io), F9 IO_L16P_0 (io), F10 IO_L19N_0 (io), F11 IO_L24P_0 (io), F12 IO_L28N_0 (io), F13 IO_L30P_0 (io), G8 IO_L11N_0 (io), G9 IO_L16N_0 (io), G10 IO/VREF_0 (io), G11 IO_L24N_0 (io), G12 IO_L27N_0 (io), G13 IO_L30N_0 (io), H11 IO (io), H12 IO (io), H13 IO_L27P_0 (io)
part B pins: A14 IO (io), A15 IO_L29N_1 (io), A16 IO_L26N_1 (io), A17 IO_L23N_1 (io), A19 IO_L15N_1 (io), A20 IO_L10N_1/VREF_1 (io), A21 IO_L08N_1 (io), A22 IO (io), A23 IO (io), B14 IO_L32N_1/GCLK5 (io), B15 IO_L29P_1 (io), B16 IO_L26P_1 (io), B17 IO_L23P_1 (io), B18 IO (io), B19 IO_L15P_1 (io), B20 IO_L10P_1 (io), B21 IO_L08P_1 (io), B22 IO_L06N_1/VREF_1 (io), B23 IO_L04N_1 (io), C14 IO_L32P_1/GCLK4 (io), C15 IO/VREF_1 (io), C17 IO/VREF_1 (io), C18 IO (io), C19 IO_L12N_1 (io), C21 IO_L07N_1 (io), C22 IO_L06P_1 (io), C23 IO_L04P_1 (io), D14 IO_L31N_1/VREF_1 (io), D16 IO (io), D17 IO_L22N_1 (io), D18 IO_L17N_1/VREF_1 (io), D19 IO_L12P_1 (io), D20 IO_L09N_1 (io), D21 IO_L07P_1 (io), D22 IO_L01N_1/VRP_1 (io), E14 IO_L31P_1 (io), E15 IO_L28N_1 (io), E16 IO_L25N_1 (io), E17 IO_L22P_1 (io), E18 IO_L17P_1 (io), E19 IO_L11N_1 (io), E20 IO_L09P_1 (io), E21 IO_L05N_1 (io), E22 IO_L01P_1/VRN_1 (io), F14 IO (io), F15 IO_L28P_1 (io), F16 IO_L25P_1 (io), F17 IO_L19N_1 (io), F18 IO_L16N_1 (io), F19 IO_L11P_1 (io), F20 IO (io), F21 IO_L05P_1 (io), G14 IO_L30N_1 (io), G15 IO_L27N_1 (io), G16 IO_L24N_1 (io), G17 IO_L19P_1 (io), G18 IO_L16P_1 (io), G19 IO (io), H14 IO_L30P_1 (io), H15 IO_L27P_1 (io), H16 IO_L24P_1 (io)
part C pins: C25 IO_L01N_2/VRP_2 (io), C26 IO_L01P_2/VRN_2 (io), D25 IO_L03N_2/VREF_2 (io), D26 IO_L03P_2 (io), E23 IO_L02N_2 (io), E24 IO_L02P_2 (io), E25 IO_L05N_2 (io), E26 IO_L05P_2 (io), F22 IO (io), F23 IO_L07N_2 (io), F24 IO_L07P_2 (io), F25 IO_L09N_2/VREF_2 (io), F26 IO_L09P_2 (io), G20 IO_L06N_2 (io), G21 IO_L06P_2 (io), G22 IO_L08N_2 (io), G23 IO_L08P_2 (io), G25 IO_L10N_2 (io), G26 IO_L10P_2 (io), H20 IO_L11N_2 (io), H21 IO_L11P_2 (io), H22 IO_L12N_2 (io), H23 IO (io), H24 IO/VREF_2 (io), H25 IO_L19N_2 (io), H26 IO_L19P_2 (io), J20 IO_L20N_2 (io), J21 IO_L12P_2 (io), J22 IO_L21N_2 (io), J23 IO_L21P_2 (io), J24 IO_L22N_2 (io), J25 IO_L22P_2 (io), K20 IO_L20P_2 (io), K21 IO_L23N_2/VREF_2 (io), K22 IO_L23P_2 (io), K23 IO_L24N_2 (io), K24 IO_L24P_2 (io), K25 IO_L26N_2 (io), K26 IO_L26P_2 (io), L19 IO_L27N_2 (io), L20 IO_L27P_2 (io), L21 IO_L28N_2 (io), L22 IO_L28P_2 (io), L23 IO_L33N_2 (io), L25 IO_L29N_2 (io), L26 IO_L29P_2 (io), M19 IO_L31N_2 (io), M20 IO_L31P_2 (io), M21 IO_L32N_2 (io), M22 IO_L32P_2 (io), M24 IO_L33P_2 (io), M25 IO_L34N_2/VREF_2 (io), M26 IO_L34P_2 (io), N19 IO_L35N_2 (io), N20 IO_L35P_2 (io), N21 IO_L38N_2 (io), N22 IO_L38P_2 (io), N23 IO_L39N_2 (io), N24 IO_L39P_2 (io), N25 IO_L40N_2 (io), N26 IO_L40P_2/VREF_2 (io)
part D pins: AA21 IO_L01P_3/VRN_3 (io), AA22 IO_L01N_3/VRP_3 (io), AA23 IO_L07P_3 (io), AA24 IO_L07N_3 (io), AA25 IO_L09P_3/VREF_3 (io), AA26 IO_L09N_3 (io), AB23 IO_L02P_3 (io), AB24 IO_L02N_3/VREF_3 (io), AB25 IO_L06P_3 (io), AB26 IO_L06N_3 (io), AC25 IO_L03P_3 (io), AC26 IO_L03N_3 (io), P19 IO_L35P_3 (io), P20 IO_L35N_3 (io), P21 IO_L38P_3 (io), P22 IO_L38N_3 (io), P23 IO_L39P_3 (io), P24 IO_L39N_3 (io), P25 IO_L40P_3 (io), P26 IO_L40N_3/VREF_3 (io), R19 IO_L31P_3 (io), R20 IO_L31N_3 (io), R21 IO_L32P_3 (io), R22 IO_L32N_3 (io), R24 IO_L33N_3 (io), R25 IO_L34P_3/VREF_3 (io), R26 IO_L34N_3 (io), T19 IO_L27P_3 (io), T20 IO_L27N_3 (io), T21 IO_L28P_3 (io), T22 IO_L28N_3 (io), T23 IO_L33P_3 (io), T25 IO_L29P_3 (io), T26 IO_L29N_3 (io), U20 IO_L20N_3 (io), U21 IO_L23P_3/VREF_3 (io), U22 IO_L23N_3 (io), U23 IO_L24P_3 (io), U24 IO_L24N_3 (io), U25 IO_L26P_3 (io), U26 IO_L26N_3 (io), V20 IO_L20P_3 (io), V21 IO_L16N_3 (io), V22 IO_L21P_3 (io), V23 IO_L21N_3 (io), V24 IO_L22P_3 (io), V25 IO_L22N_3 (io), W20 IO_L10P_3 (io), W21 IO_L10N_3 (io), W22 IO_L16P_3 (io), W23 IO_L17P_3/VREF_3 (io), W24 IO_L17N_3 (io), W25 IO_L19P_3 (io), W26 IO_L19N_3 (io), Y20 IO_L05P_3 (io), Y21 IO_L05N_3 (io), Y22 IO_L08P_3 (io), Y23 IO_L08N_3 (io), Y25 IO_L14P_3 (io), Y26 IO_L14N_3 (io)
part E pins: AA14 IO_L30P_4/D3 (io), AA15 IO_L28N_4 (io), AA16 IO_L24P_4 (io), AA17 IO_L19P_4 (io), AA18 IO_L16P_4 (io), AA19 IO_L11P_4 (io), AA20 IO (io), AB14 IO/VREF_4 (io), AB15 IO_L28P_4 (io), AB16 IO_L25N_4 (io), AB17 IO_L22P_4 (io), AB18 IO_L17N_4 (io), AB19 IO_L12N_4 (io), AB20 IO_L09N_4 (io), AB21 IO_L07N_4 (io), AB22 IO_L01N_4/VRP_4 (io), AC14 IO_L31N_4/INIT_B (io), AC16 IO_L25P_4 (io), AC17 IO_L19N_4 (io), AC18 IO_L17P_4 (io), AC19 IO_L12P_4 (io), AC20 IO_L09P_4 (io), AC21 IO_L07P_4 (io), AC22 IO_L01P_4/VRN_4 (io), AD14 IO_L31P_4/DOUT/BUSY (io), AD15 IO (io), AD17 IO_L22N_4/VREF_4 (io), AD18 IO_L18N_4 (io), AD19 IO (io), AD21 IO_L08N_4 (io), AD22 IO_L06N_4/VREF_4 (io), AD23 IO (io), AD25 IO/VREF_4 (io), AE14 IO_L32N_4/GCLK1 (io), AE15 IO_L29N_4 (io), AE16 IO_L26N_4 (io), AE17 IO_L23N_4 (io), AE18 IO_L18P_4 (io), AE19 IO_L15N_4 (io), AE20 IO_L10N_4 (io), AE21 IO_L08P_4 (io), AE22 IO_L06P_4 (io), AE23 IO_L05N_4 (io), AE24 IO_L04N_4 (io), AF14 IO_L32P_4/GCLK0 (io), AF15 IO_L29P_4 (io), AF16 IO_L26P_4/VREF_4 (io), AF17 IO_L23P_4 (io), AF19 IO_L15P_4 (io), AF20 IO_L10P_4 (io), AF21 IO (io), AF22 IO (io), AF23 IO_L05P_4 (io), AF24 IO_L04P_4 (io), W14 IO_L27P_4/D1 (io), W15 IO (io), W16 IO (io), Y14 IO_L30N_4/D2 (io), Y15 IO_L27N_4/DIN/D0 (io), Y16 IO_L24N_4 (io), Y17 IO/VREF_4 (io), Y18 IO_L16N_4 (io), Y19 IO_L11N_4 (io)
part F pins: AA6 IO_L05P_5 (io), AA7 IO (io), AA8 IO_L11P_5 (io), AA9 IO_L16N_5 (io), AA10 IO_L19N_5 (io), AA11 IO_L25P_5 (io), AA12 IO_L28P_5/D7 (io), AA13 IO (io), AB5 IO_L01P_5/CS_B (io), AB6 IO_L05N_5 (io), AB7 IO_L09P_5 (io), AB8 IO_L11N_5/VREF_5 (io), AB9 IO_L17P_5 (io), AB10 IO_L22P_5 (io), AB11 IO_L25N_5 (io), AB12 IO_L28N_5/D6 (io), AB13 IO_L31P_5/D5 (io), AC5 IO_L01N_5/RDWR_B (io), AC6 IO_L07P_5 (io), AC7 IO_L09N_5 (io), AC8 IO_L12P_5 (io), AC9 IO_L17N_5 (io), AC10 IO_L22N_5 (io), AC11 IO (io), AC13 IO_L31N_5/D4 (io), AD4 IO_L04P_5 (io), AD5 IO_L06P_5 (io), AD6 IO_L07N_5 (io), AD8 IO_L12N_5 (io), AD9 IO_L18P_5 (io), AD10 IO (io), AD12 IO (io), AD13 IO_L32P_5/GCLK2 (io), AE4 IO_L04N_5 (io), AE5 IO_L06N_5 (io), AE6 IO_L08P_5 (io), AE7 IO_L10P_5/VRN_5 (io), AE8 IO_L15P_5 (io), AE9 IO_L18N_5 (io), AE10 IO_L23P_5 (io), AE11 IO_L26P_5 (io), AE12 IO_L29P_5/VREF_5 (io), AE13 IO_L32N_5/GCLK3 (io), AF4 IO (io), AF5 IO/VREF_5 (io), AF6 IO_L08N_5 (io), AF7 IO_L10N_5/VRP_5 (io), AF8 IO_L15N_5 (io), AF10 IO_L23N_5 (io), AF11 IO_L26N_5 (io), AF12 IO_L29N_5 (io), AF13 IO/VREF_5 (io), W11 IO_L24P_5 (io), W12 IO_L27P_5 (io), W13 IO_L30P_5 (io), Y8 IO (io), Y9 IO_L16P_5 (io), Y10 IO_L19P_5/VREF_5 (io), Y11 IO_L24N_5 (io), Y12 IO_L27N_5/VREF_5 (io), Y13 IO_L30N_5 (io)
part G pins: AA1 IO_L09P_6 (io), AA2 IO_L09N_6/VREF_6 (io), AA3 IO_L07P_6 (io), AA4 IO_L07N_6 (io), AA5 IO (io), AB1 IO_L05P_6 (io), AB2 IO_L05N_6 (io), AB3 IO_L02P_6 (io), AB4 IO_L02N_6 (io), AC1 IO_L03P_6 (io), AC2 IO_L03N_6/VREF_6 (io), AD1 IO_L01P_6/VRN_6 (io), AD2 IO_L01N_6/VRP_6 (io), P1 IO_L40P_6/VREF_6 (io), P2 IO_L40N_6 (io), P3 IO_L39P_6 (io), P4 IO_L39N_6 (io), P5 IO_L38P_6 (io), P6 IO_L38N_6 (io), P7 IO_L35P_6 (io), P8 IO_L35N_6 (io), R1 IO_L34P_6 (io), R2 IO_L34N_6/VREF_6 (io), R3 IO_L33P_6 (io), R5 IO_L32P_6 (io), R6 IO_L32N_6 (io), R7 IO_L31P_6 (io), R8 IO_L31N_6 (io), T1 IO_L29P_6 (io), T2 IO_L29N_6 (io), T4 IO_L33N_6 (io), T5 IO_L28P_6 (io), T6 IO_L28N_6 (io), T7 IO_L27P_6 (io), T8 IO_L27N_6 (io), U1 IO_L26P_6 (io), U2 IO_L26N_6 (io), U3 IO_L24P_6 (io), U4 IO_L24N_6/VREF_6 (io), U5 IO_L23P_6 (io), U6 IO_L23N_6 (io), U7 IO_L20P_6 (io), V2 IO_L22P_6 (io), V3 IO_L22N_6 (io), V4 IO_L21P_6 (io), V5 IO_L21N_6 (io), V6 IO_L16N_6 (io), V7 IO_L20N_6 (io), W1 IO_L19P_6 (io), W2 IO_L19N_6 (io), W3 IO_L17P_6/VREF_6 (io), W4 IO_L17N_6 (io), W5 IO_L16P_6 (io), W6 IO_L14P_6 (io), W7 IO_L14N_6 (io), Y1 IO_L10P_6 (io), Y2 IO_L10N_6 (io), Y4 IO_L08P_6 (io), Y5 IO_L08N_6 (io), Y6 IO_L06P_6 (io), Y7 IO_L06N_6 (io)
part H pins: D1 IO_L03N_7/VREF_7 (io), D2 IO_L03P_7 (io), E1 IO_L06N_7 (io), E2 IO_L06P_7 (io), E3 IO_L02N_7 (io), E4 IO_L02P_7 (io), F1 IO_L09N_7 (io), F2 IO_L09P_7 (io), F3 IO_L07N_7 (io), F4 IO_L07P_7 (io), F5 IO_L01N_7/VRP_7 (io), F6 IO_L01P_7/VRN_7 (io), G1 IO_L14N_7 (io), G2 IO_L14P_7 (io), G4 IO_L08N_7 (io), G5 IO_L08P_7 (io), G6 IO_L05N_7 (io), G7 IO_L05P_7 (io), H1 IO_L19N_7/VREF_7 (io), H2 IO_L19P_7 (io), H3 IO_L17N_7 (io), H4 IO_L17P_7 (io), H5 IO_L16P_7/VREF_7 (io), H6 IO_L10N_7 (io), H7 IO_L10P_7/VREF_7 (io), J2 IO_L22N_7 (io), J3 IO_L22P_7 (io), J4 IO_L21N_7 (io), J5 IO_L21P_7 (io), J6 IO_L16N_7 (io), J7 IO_L20P_7 (io), K1 IO_L26N_7 (io), K2 IO_L26P_7 (io), K3 IO_L24N_7 (io), K4 IO_L24P_7 (io), K5 IO_L23N_7 (io), K6 IO_L23P_7 (io), K7 IO_L20N_7 (io), L1 IO_L29N_7 (io), L2 IO_L29P_7 (io), L4 IO_L33P_7 (io), L5 IO_L28N_7 (io), L6 IO_L28P_7 (io), L7 IO_L27N_7 (io), L8 IO_L27P_7/VREF_7 (io), M1 IO_L34N_7 (io), M2 IO_L34P_7 (io), M3 IO_L33N_7 (io), M5 IO_L32P_7 (io), M6 IO_L32N_7 (io), M7 IO_L31N_7 (io), M8 IO_L31P_7 (io), N1 IO_L40N_7/VREF_7 (io), N2 IO_L40P_7 (io), N3 IO_L39N_7 (io), N4 IO_L39P_7 (io), N5 IO_L38N_7 (io), N6 IO_L38P_7 (io), N7 IO_L35N_7 (io), N8 IO_L35P_7 (io)
part I pins: A24 TMS (in), AC3 M1 (in), AC24 DONE (io), AD26 CCLK (io), AE3 M0 (in), AF3 M2 (in), B24 TCK (in), C1 TDI (in), C2 HSWAP_EN (in), D3 PROG_B (in), D24 TDO (out)
part J pins: A2 VCCAUX (power), A9 VCCAUX (power), A18 VCCAUX (power), A25 VCCAUX (power), AD7 VCCO_5 (power), AD11 VCCO_5 (power), AD16 VCCO_4 (power), AD20 VCCO_4 (power), AE1 VCCAUX (power), AE26 VCCAUX (power), AF2 VCCAUX (power), AF9 VCCAUX (power), AF18 VCCAUX (power), AF25 VCCAUX (power), B1 VCCAUX (power), B26 VCCAUX (power), C7 VCCO_0 (power), C11 VCCO_0 (power), C16 VCCO_1 (power), C20 VCCO_1 (power), G3 VCCO_7 (power), G24 VCCO_2 (power), H8 VCCINT (power), H9 VCCO_0 (power), H10 VCCO_0 (power), H17 VCCO_1 (power), H18 VCCO_1 (power), H19 VCCINT (power), J1 VCCAUX (power), J8 VCCO_7 (power), J9 VCCINT (power), J10 VCCINT (power), J11 VCCO_0 (power), J12 VCCO_0 (power), J13 VCCO_0 (power), J14 VCCO_1 (power), J15 VCCO_1 (power), J16 VCCO_1 (power), J17 VCCINT (power), J18 VCCINT (power), J19 VCCO_2 (power), J26 VCCAUX (power), K8 VCCO_7 (power), K9 VCCINT (power), K10 VCCINT (power), K13 VCCO_0 (power), K14 VCCO_1 (power), K17 VCCINT (power), K18 VCCINT (power), K19 VCCO_2 (power), L3 VCCO_7 (power), L9 VCCO_7 (power), L18 VCCO_2 (power), L24 VCCO_2 (power), M9 VCCO_7 (power), M18 VCCO_2 (power), N9 VCCO_7 (power), N10 VCCO_7 (power), N17 VCCO_2 (power), N18 VCCO_2 (power), P9 VCCO_6 (power), P10 VCCO_6 (power), P17 VCCO_3 (power), P18 VCCO_3 (power), R9 VCCO_6 (power), R18 VCCO_3 (power), T3 VCCO_6 (power), T9 VCCO_6 (power), T18 VCCO_3 (power), T24 VCCO_3 (power), U8 VCCO_6 (power), U9 VCCINT (power), U10 VCCINT (power), U13 VCCO_5 (power), U14 VCCO_4 (power), U17 VCCINT (power), U18 VCCINT (power), U19 VCCO_3 (power), V1 VCCAUX (power), V8 VCCO_6 (power), V9 VCCINT (power), V10 VCCINT (power), V11 VCCO_5 (power), V12 VCCO_5 (power), V13 VCCO_5 (power), V14 VCCO_4 (power), V15 VCCO_4 (power), V16 VCCO_4 (power), V17 VCCINT (power), V18 VCCINT (power), V19 VCCO_3 (power), V26 VCCAUX (power), W8 VCCINT (power), W9 VCCO_5 (power), W10 VCCO_5 (power), W17 VCCO_4 (power), W18 VCCO_4 (power), W19 VCCINT (power), Y3 VCCO_6 (power), Y24 VCCO_3 (power)
part K pins: A1 GND (power), A26 GND (power), AC4 GND (power), AC12 GND (power), AC15 GND (power), AC23 GND (power), AD3 GND (power), AD24 GND (power), AE2 GND (power), AE25 GND (power), AF1 GND (power), AF26 GND (power), B2 GND (power), B25 GND (power), C3 GND (power), C24 GND (power), D4 GND (power), D12 GND (power), D15 GND (power), D23 GND (power), K11 GND (power), K12 GND (power), K15 GND (power), K16 GND (power), L10 GND (power), L11 GND (power), L12 GND (power), L13 GND (power), L14 GND (power), L15 GND (power), L16 GND (power), L17 GND (power), M4 GND (power), M10 GND (power), M11 GND (power), M12 GND (power), M13 GND (power), M14 GND (power), M15 GND (power), M16 GND (power), M17 GND (power), M23 GND (power), N11 GND (power), N12 GND (power), N13 GND (power), N14 GND (power), N15 GND (power), N16 GND (power), P11 GND (power), P12 GND (power), P13 GND (power), P14 GND (power), P15 GND (power), P16 GND (power), R4 GND (power), R10 GND (power), R11 GND (power), R12 GND (power), R13 GND (power), R14 GND (power), R15 GND (power), R16 GND (power), R17 GND (power), R23 GND (power), T10 GND (power), T11 GND (power), T12 GND (power), T13 GND (power), T14 GND (power), T15 GND (power), T16 GND (power), T17 GND (power), U11 GND (power), U12 GND (power), U15 GND (power), U16 GND (power)
part A text: BANK 0
part B text: BANK 1
part C text: BANK 2
part D text: BANK 3
part E text: BANK 4
part F text: BANK 5
part G text: BANK 6
part H text: BANK 7

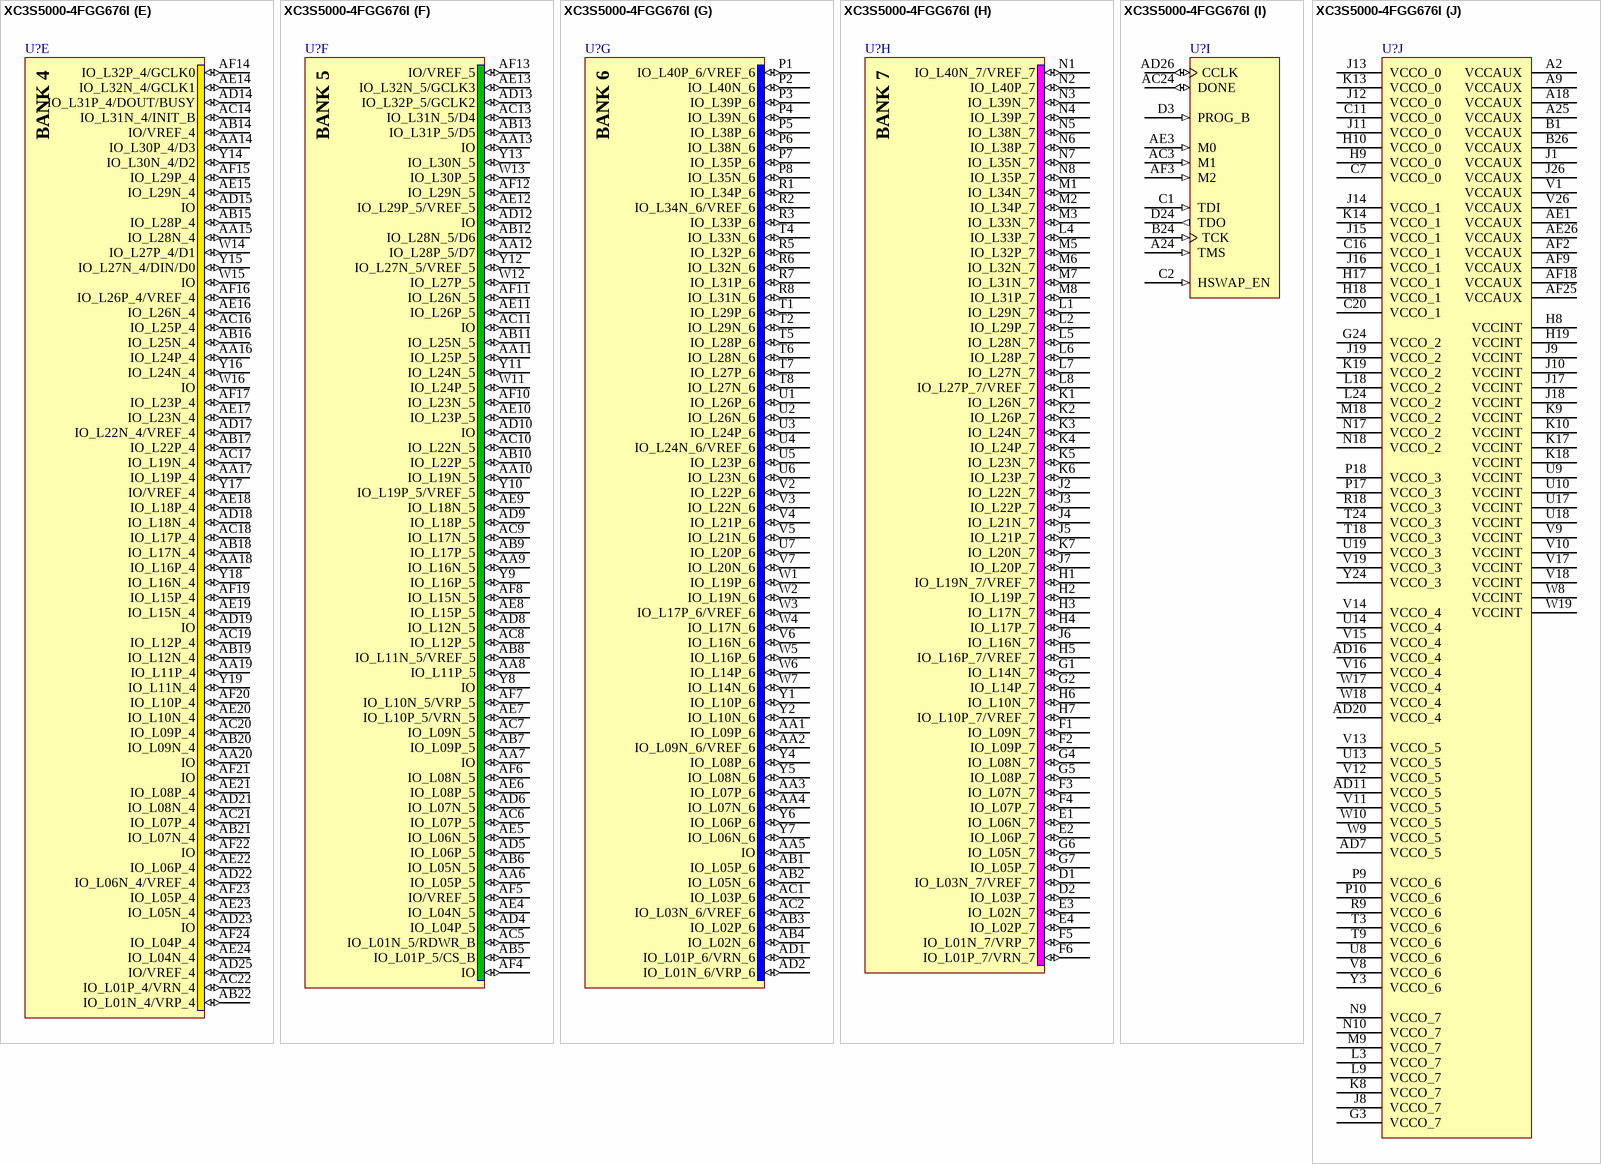
[diagram p173: symbol XC3S5000-4FGG676I]

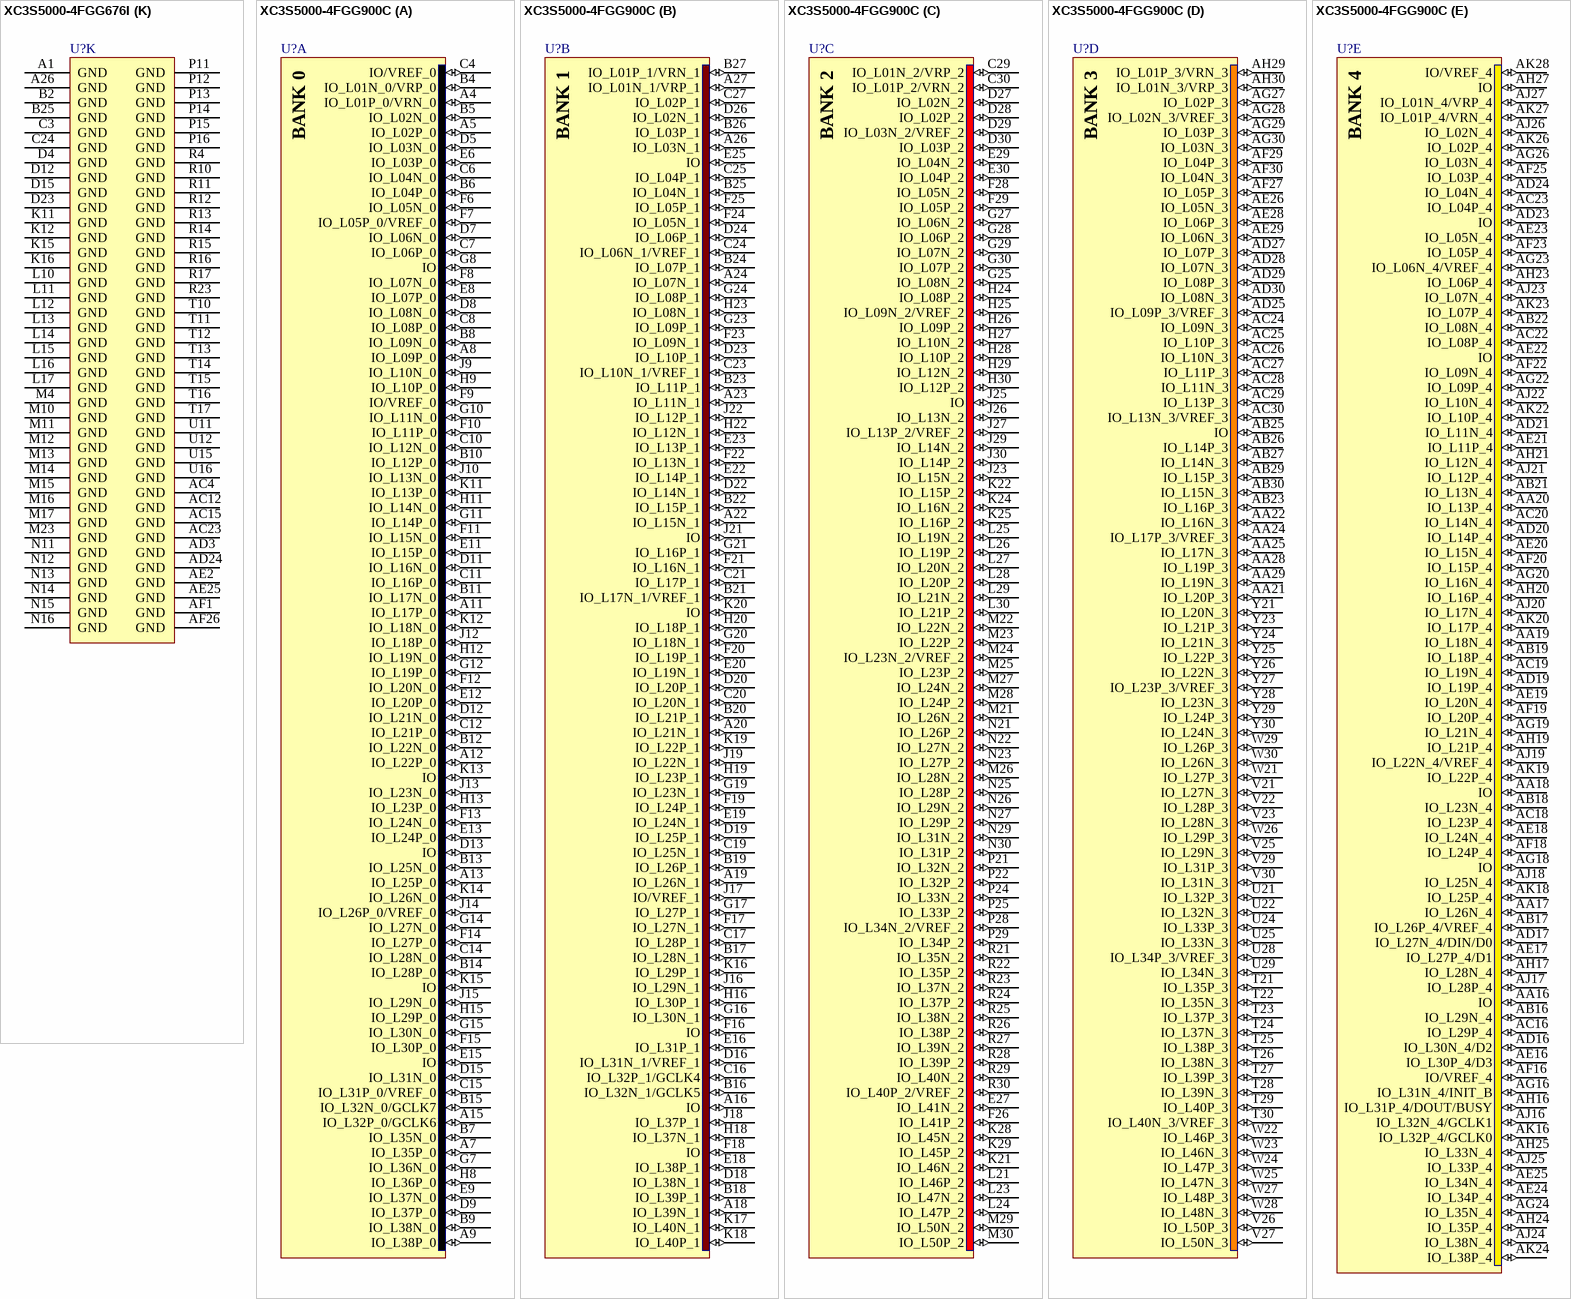
[diagram p174: symbols XC3S5000-4FGG676I to XC3S5000-4FGG900C]